# Altium footprint library OSC_SMD_01.PcbLib: 1 footprints
Each footprint in its own frame and in the unit in brackets; x right, y up, seen from the top. Pads: shape width x height; smd on the part's side, far side on the other; paste and mask are expansions set on the pad; w line width, h text height; cw(c..) or ccw(c..) is an arc to the next point about the centre after c.
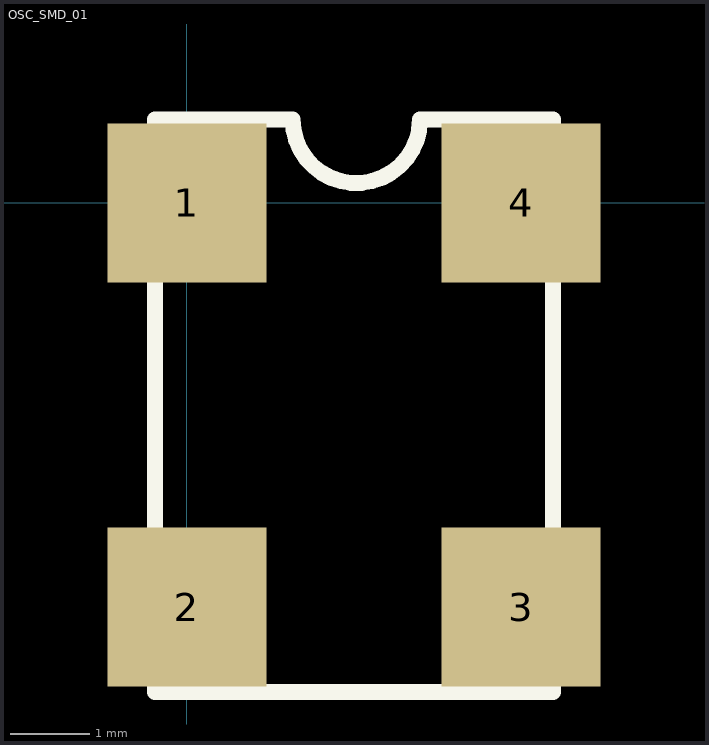
[diagram p0: the footprint, top view; thin cyan lines are the x and y axes]

## OSC_SMD_01 [mm]
pads (4):
  rect 2x2 smd: 1(0,0) 2(0,-5.08) 3(4.2,-5.08) 4(4.2,0)
Top Overlay:
  lines w0.2: 1.3,1.05 -0.4,1.05 -0.4,-6.15 4.6,-6.15 4.6,1.05 2.95,1.05 ; 1.33,1.05 ccw(c2.13,1.05) 2.93,1.05